# Altium schematic symbol library wire_and_cable_pads.SchLib: 1 symbol
Pins are listed as number, name and electrical type; pins without a type are passive.

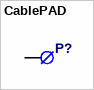
[diagram p0: symbol CablePAD]

## CablePAD
designator P?  (value not drawn)  (no BOM)
Cable/Wire Soldering PAD; Published: 14-Sep-2006
footprint PADTHT1.5x2mm
footprint PADSMD2x3mm
footprint PADSMD3x5mm
footprint PADTHT1.5x3mm
pins: 0